# EAGLE library part AD7606 (library libredaq-comps)
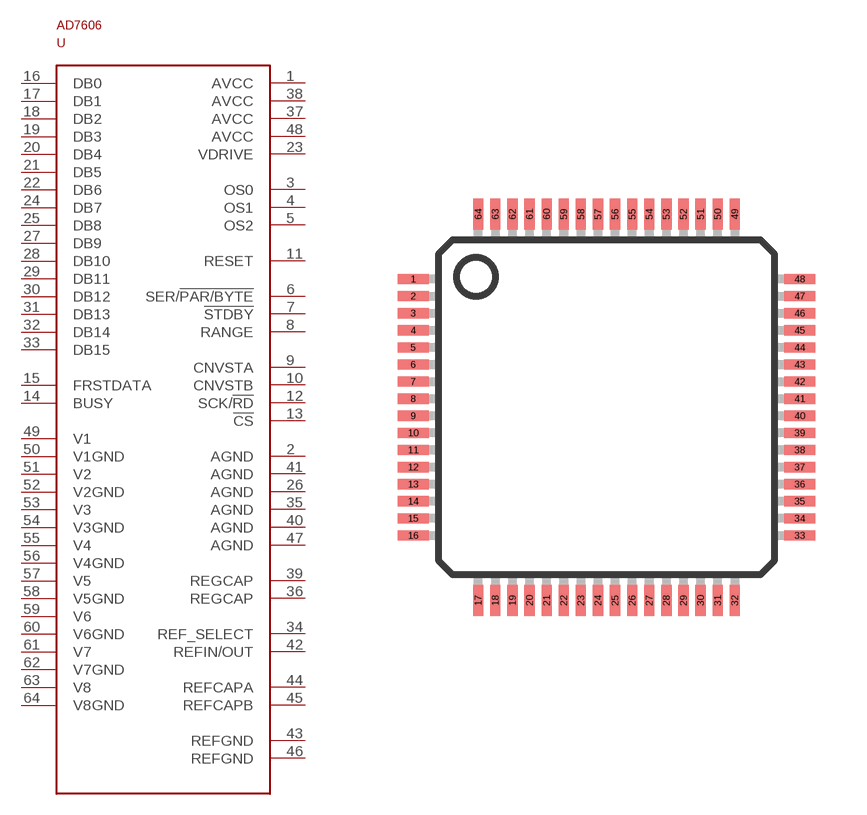
[diagram p1: symbol with the pads of LQFP-ST-64-2; footprint LQFP-ST-64-2]

Designator prefix U

## AD7606  [LQFP-ST-64-2]
1  AVCC
2  AGND
3  OS0
4  OS1
5  OS2
6  SER/!PAR/BYTE
7  !STDBY
8  RANGE
9  CNVSTA
10  CNVSTB
11  RESET
12  SCK/!RD
13  !CS
14  BUSY
15  FRSTDATA
16  DB0
17  DB1
18  DB2
19  DB3
20  DB4
21  DB5
22  DB6
23  VDRIVE
24  DB7
25  DB8
26  AGND
27  DB9
28  DB10
29  DB11
30  DB12
31  DB13
32  DB14
33  DB15
34  REF_SELECT
35  AGND
36  REGCAP
37  AVCC
38  AVCC
39  REGCAP
40  AGND
41  AGND
42  REFIN/OUT
43  REFGND
44  REFCAPA
45  REFCAPB
46  REFGND
47  AGND
48  AVCC
49  V1
50  V1GND
51  V2
52  V2GND
53  V3
54  V3GND
55  V4
56  V4GND
57  V5
58  V5GND
59  V6
60  V6GND
61  V7
62  V7GND
63  V8
64  V8GND

## Footprint LQFP-ST-64-2 (pad centres in mm)
64-Lead Low Profile Quad Flat Package [LQFP] (ST-64-2) COMPLIANT TO JEDEC STANDARDS MS-026-BCD Source: http://www.analog.com/UploadedFiles/Data_Sheets/288945048AD7C7019_20_1_2_4_5_6_7_0.pdf
smd 0.9 x 0.3: 1 -5.65,3.75; 2 -5.65,3.25; 3 -5.65,2.75; 4 -5.65,2.25; 5 -5.65,1.75; 6 -5.65,1.25; 7 -5.65,0.75; 8 -5.65,0.25; 9 -5.65,-0.25; 10 -5.65,-0.75; 11 -5.65,-1.25; 12 -5.65,-1.75; 13 -5.65,-2.25; 14 -5.65,-2.75; 15 -5.65,-3.25; 16 -5.65,-3.75; 33 5.65,-3.75; 34 5.65,-3.25; 35 5.65,-2.75; 36 5.65,-2.25; 37 5.65,-1.75; 38 5.65,-1.25; 39 5.65,-0.75; 40 5.65,-0.25; 41 5.65,0.25; 42 5.65,0.75; 43 5.65,1.25; 44 5.65,1.75; 45 5.65,2.25; 46 5.65,2.75; 47 5.65,3.25; 48 5.65,3.75
smd 0.3 x 0.9: 17 -3.75,-5.65; 18 -3.25,-5.65; 19 -2.75,-5.65; 20 -2.25,-5.65; 21 -1.75,-5.65; 22 -1.25,-5.65; 23 -0.75,-5.65; 24 -0.25,-5.65; 25 0.25,-5.65; 26 0.75,-5.65; 27 1.25,-5.65; 28 1.75,-5.65; 29 2.25,-5.65; 30 2.75,-5.65; 31 3.25,-5.65; 32 3.75,-5.65; 49 3.75,5.65; 50 3.25,5.65; 51 2.75,5.65; 52 2.25,5.65; 53 1.75,5.65; 54 1.25,5.65; 55 0.75,5.65; 56 0.25,5.65; 57 -0.25,5.65; 58 -0.75,5.65; 59 -1.25,5.65; 60 -1.75,5.65; 61 -2.25,5.65; 62 -2.75,5.65; 63 -3.25,5.65; 64 -3.75,5.65